# Altium integrated library SSM-109-STL-DV.IntLib: 1 symbol
Pins are listed as number, name and electrical type; pins without a type are passive.

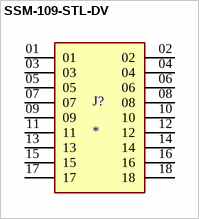
[diagram p0: symbol SSM-109-STL-DV]

## SSM-109-STL-DV
designator J?
MP: SSM-109-STL-DV; MF: Samtec; Package: None; Price: None; Availability: Unavailable; Value: *
footprint SAMTEC_SSM-109-STL-DV
pins: 01, 02, 03, 04, 05, 06, 07, 08, 09, 10, 11, 12, 13, 14, 15, 16, 17, 18